# EAGLE library part LM324 (library BME_Components)
Single Supply Quad Operational Amplifier, 3 to 32 V, 0 to 70 degC, 14-Pin PDIP, Pb-Free, Tube
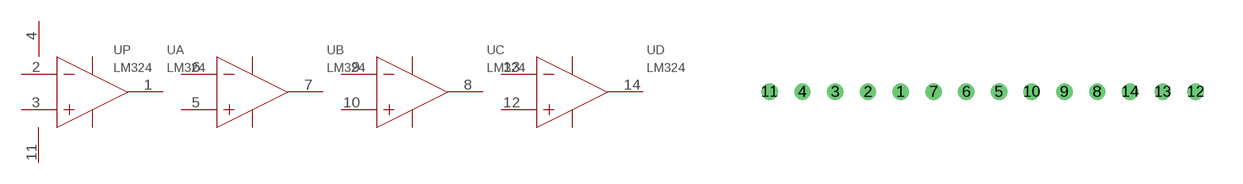
[diagram p24: symbol with the pads of LM324_PDIP-14; footprint LM324_PDIP-14]

Designator prefix U; gates P=LM324_P A=LM324_A B=LM324_B C=LM324_C D=LM324_D

## LM324LM324_LM324_PDIP-14 (COMPONENTLINK1DESCRIPTION: Manufacturer URL; COMPONENTLINK1URL: http://www.onsemi.com/; COMPONENTLINK2DESCRIPTION: Datasheet; COMPONENTLINK2URL: http://www.onsemi.cn/pub_link/Collateral/LM324-D.PDF; COMPONENTLINK3DESCRIPTION: Package Specification; COMPONENTLINK3URL: http://www.onsemi.com/pub_link/Collateral/646-06.PDF; DATASHEETVERSION: Rev. 25; MANUFACTURER: On Semiconductor; MOUNTING_TECHNOLOGY: Through Hole; PACKAGEDESCRIPTION: 14-Pin Plastic Dual-In Line Package, Body 19.18 x 6.605 mm, Pitch 2.54 mm; PACKAGEREFERENCE: PDIP-14-646-06; PACKAGEVERSION: Rev. R, 06/2013; PACKING: Tube; PARTNUMBER: LM324NG; ROHS: TRUE; VCC_MAX_(V): 32; VCC_MIN_(V): 3)  [LM324_PDIP-14]
1  A:OUT1  out
2  A:IN1-  in
3  A:IN1+  in
4  P:VCC  pwr
5  B:IN2+  in
6  B:IN2-  in
7  B:OUT2  out
8  C:OUT3  out
9  C:IN3-  in
10  C:IN3+  in
11  P:VEE/GND  pwr
12  D:IN4+  in
13  D:IN4-  in
14  D:OUT4  out

## Footprint LM324_PDIP-14 (pad centres in mm)
drill 0.127 pad 0.254 round: 1 5.08,0; 2 3.81,0; 3 2.54,0; 4 1.27,0; 5 8.89,0; 6 7.62,0; 7 6.35,0; 8 12.7,0; 9 11.43,0; 10 10.16,0; 11 0,0; 12 16.51,0; 13 15.24,0; 14 13.97,0